# EAGLE library part 61302421821 (library Board_to_Board_Connectors_rev15d)
WR-PHD 2.54mm Dual Socket Header, 24 Pins =>Code : Con_BTB_SHD_2.54_2_61302421821 <http://katalog.we-online.de/media/images/eican/Con_BTB_SHD_2.54_2_6130xx21821_pf2.jpg> Details see: http://katalog.we-online.de/en/em/613_0xx_218_21 Created 2014-05-29, Karrer Zheng 2014 (C) Würth Elektronik
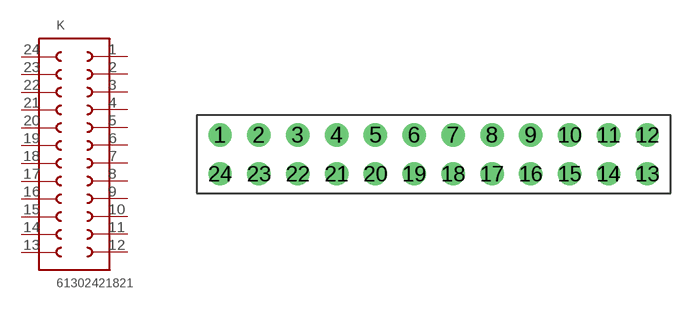
[diagram p118: symbol with the pads of 61302421821; footprint 61302421821]

Designator prefix K

## 61302421821  [61302421821]
1  1  pas
2  2  pas
3  3  pas
4  4  pas
5  5  pas
6  6  pas
7  7  pas
8  8  pas
9  9  pas
10  10  pas
11  11  pas
12  12  pas
13  13  pas
14  14  pas
15  15  pas
16  16  pas
17  17  pas
18  18  pas
19  19  pas
20  20  pas
21  21  pas
22  22  pas
23  23  pas
24  24  pas

## Footprint 61302421821 (pad centres in mm)
WR-PHD 2.54mm Dual Socket Header, 24 Pins
drill 1.02: 1 -13.97,1.27; 2 -11.43,1.27; 3 -8.89,1.27; 4 -6.35,1.27; 5 -3.81,1.27; 6 -1.27,1.27; 7 1.27,1.27; 8 3.81,1.27; 9 6.35,1.27; 10 8.89,1.27; 11 11.43,1.27; 12 13.97,1.27; 13 13.97,-1.27; 14 11.43,-1.27; 15 8.89,-1.27; 16 6.35,-1.27; 17 3.81,-1.27; 18 1.27,-1.27; 19 -1.27,-1.27; 20 -3.81,-1.27; 21 -6.35,-1.27; 22 -8.89,-1.27; 23 -11.43,-1.27; 24 -13.97,-1.27